# Altium integrated library SEN-13879.IntLib: 1 symbol
Pins are listed as number, name and electrical type; pins without a type are passive.

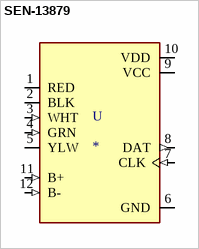
[diagram p0: symbol SEN-13879]

## SEN-13879
designator U
External Input Sensor Amplifier; MP: SEN-13879; MF: SparkFun; Package: None; Price: None; Availability: Unavailable; Value: *; SnapEDA_Link: https://www.snapeda.com/parts/SEN-13879/SparkFun%20Electronics/view-part/563337/?ref=snap
footprint SPARKFUN_SEN-13879
pins: 1 RED (io), 2 BLK (io), 3 WHT (in), 4 GRN (in), 5 YLW (io), 6 GND (power), 7 CLK (in), 8 DAT (out), 9 VCC (power), 10 VDD (power), 11 B+ (in), 12 B- (in)